# Altium schematic symbol library Driver_FET.SchLib: 201 symbols (part 2 of 2)
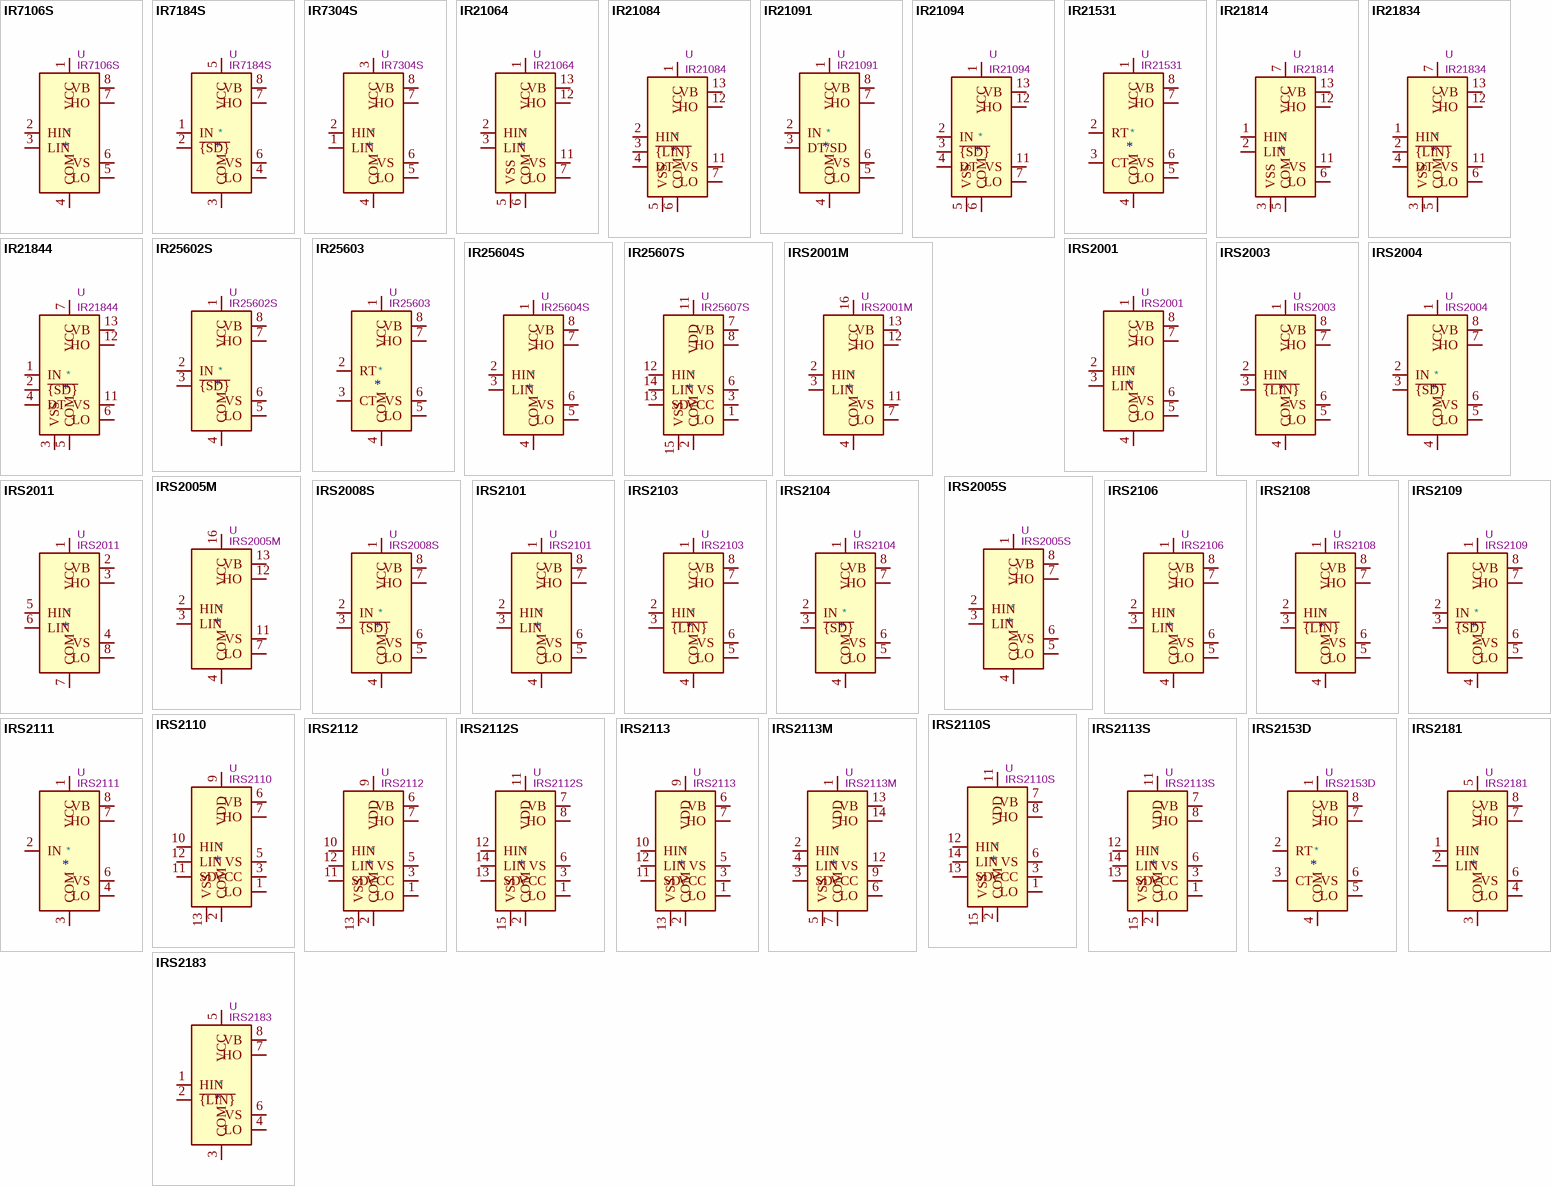
[diagram p6: symbols IR7106S to IRS2183]

## IRS2113
designator *  value IRS2113  Reference: U
ki_keywords: Gate Driver; ki_description: High and Low Side Driver, 600V, 2.0/2.0A, PDIP-14; ki_fp_filters: DIP*W7.62mm*; Footprint: Package_DIP:DIP-14_W7.62mm; Datasheet: https://www.infineon.com/dgdl/irs2110.pdf?fileId=5546d462533600a40153567660ff27b0
pins: 1 LO, 2 COM, 3 VCC, 4 NC hidden, 5 VS, 6 VB, 7 HO, 8 NC hidden, 9 VDD, 10 HIN, 11 SD, 12 LIN, 13 VSS, 14 NC hidden

## IRS2113M
designator *  value IRS2113M  Reference: U
ki_keywords: Gate Driver; ki_description: High- and Low-Side Driver, 600V, 2.5/2.5A, MLPQ-14; ki_fp_filters: Infineon*MLPQ*EP*4x4mm*P0.5mm*; Footprint: Package_DFN_QFN:Infineon_MLPQ-16-14-1EP_4x4mm_P0.5mm; Datasheet: https://www.infineon.com/dgdl/irs2113mpbf.pdf?fileId=5546d462533600a40153567676a227b7
pins: 1 VDD, 2 HIN, 3 SD, 4 LIN, 5 VSS, 6 LO, 7 COM, 8 NC hidden, 9 VCC, 11 NC hidden, 12 VS, 13 VB, 14 HO, 16 NC hidden, 17 COM hidden

## IRS2113S
designator *  value IRS2113S  Reference: U
ki_keywords: Gate Driver; ki_description: High and Low Side Driver, 500V, 2.0/2.0A, SOIC-16W; ki_fp_filters: SOIC*7.5x10.3mm*P1.27mm*; Footprint: Package_SO:SOIC-16W_7.5x10.3mm_P1.27mm; Datasheet: https://www.infineon.com/dgdl/irs2110.pdf?fileId=5546d462533600a40153567660ff27b0
pins: 1 LO, 2 COM, 3 VCC, 4 NC hidden, 5 NC hidden, 6 VS, 7 VB, 8 HO, 9 NC hidden, 10 NC hidden, 11 VDD, 12 HIN, 13 SD, 14 LIN, 15 VSS, 16 NC hidden

## IRS2153D
designator *  value IRS2153D  Reference: U
ki_keywords: Oscillating Gate Driver; ki_description: Self-Oscillating Half-Bridge Driver IC, 600V, 180/260mA, PDIP-8/SOIC-8; ki_fp_filters: SOIC*3.9x4.9mm*P1.27mm* DIP*W7.62mm*; Datasheet: https://www.infineon.com/dgdl/irs2153d.pdf?fileId=5546d462533600a401535676951e27c3
pins: 1 VCC, 2 RT, 3 CT, 4 COM, 5 LO, 6 VS, 7 HO, 8 VB

## IRS2181
designator *  value IRS2181  Reference: U
ki_keywords: Gate Driver; ki_description: High and Low Side Driver, 600V, 1.4/1.8A, PDIP-8/SOIC-8; ki_fp_filters: SOIC*3.9x4.9mm*P1.27mm* DIP*W7.62mm*; Datasheet: https://www.infineon.com/dgdl/irs2181.pdf?fileId=5546d462533600a401535676c12b27d3
pins: 1 HIN, 2 LIN, 3 COM, 4 LO, 5 VCC, 6 VS, 7 HO, 8 VB

## IRS2183
designator *  value IRS2183  Reference: U
ki_keywords: Gate Driver; ki_description: Half-Bridge Driver, 600V, 1.4/1.8A, PDIP-8/SOIC-8; ki_fp_filters: SOIC*3.9x4.9mm*P1.27mm* DIP*W7.62mm*; Datasheet: https://www.infineon.com/dgdl/irs2183.pdf?fileId=5546d462533600a401535676d20c27d8
pins: 1 HIN, 2 ~{{LIN}}, 3 COM, 4 LO, 5 VCC, 6 VS, 7 HO, 8 VB

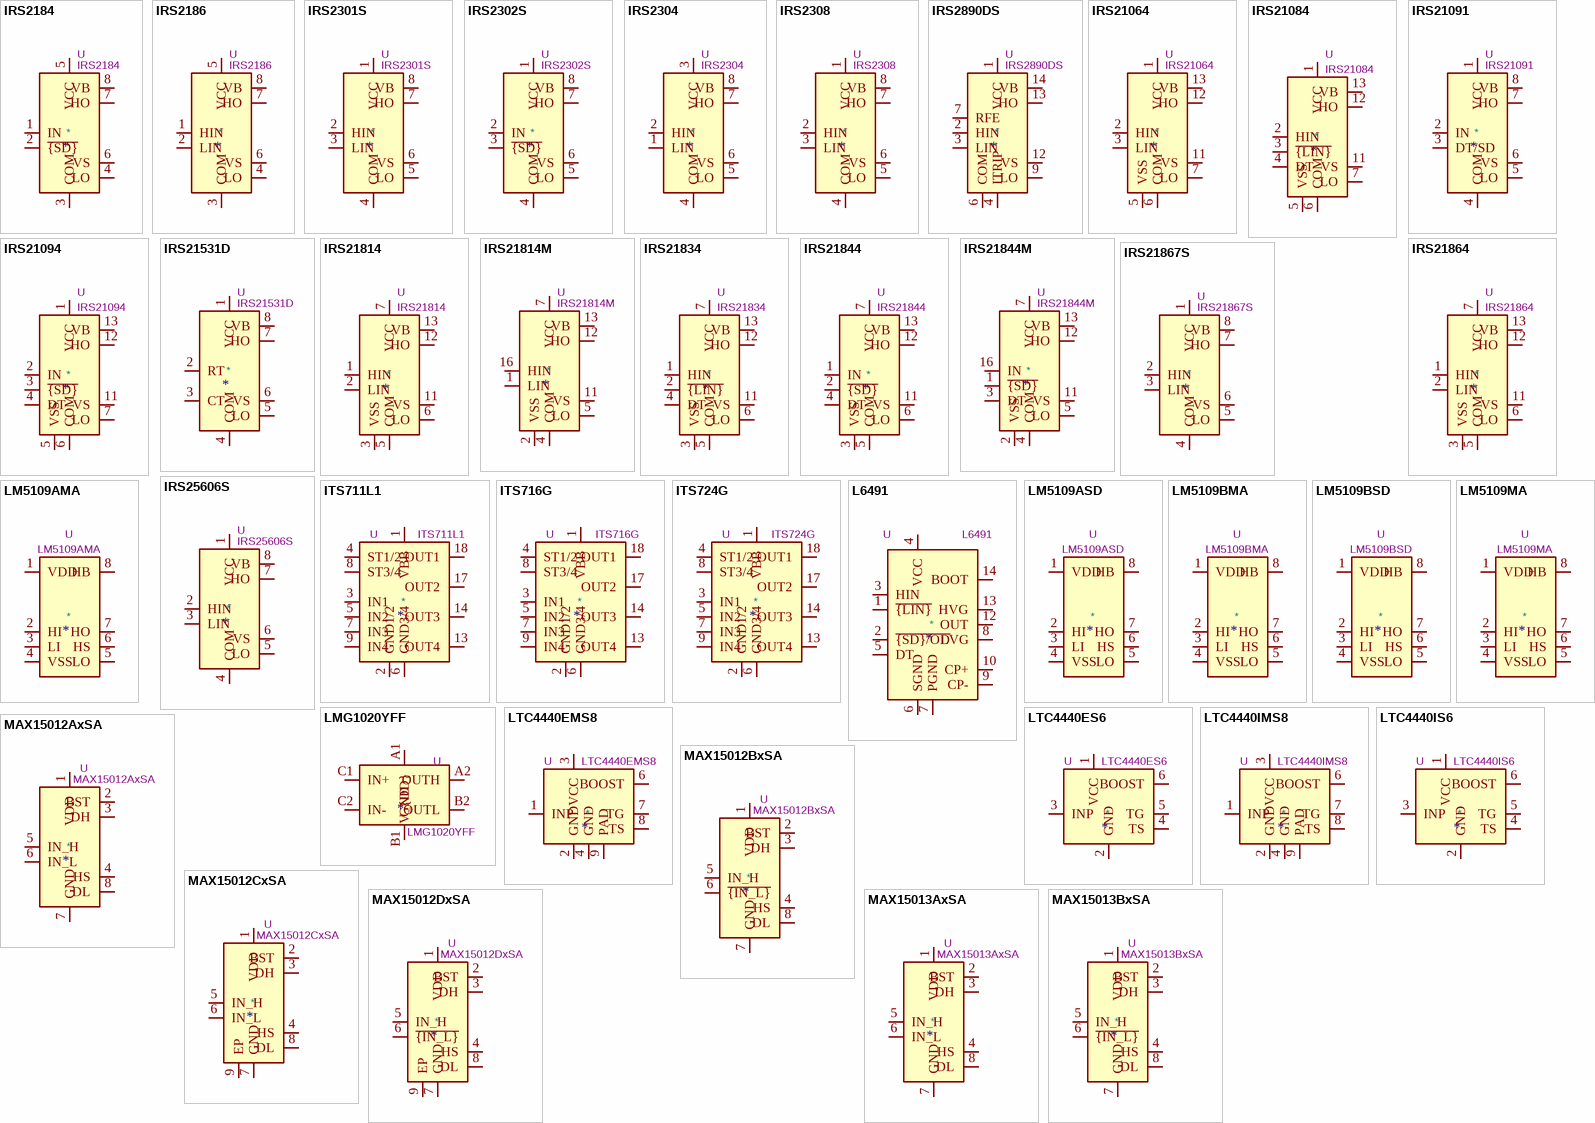
[diagram p3: symbols IRS2184 to MAX15013BxSA]

## IRS2184
designator *  value IRS2184  Reference: U
ki_keywords: Gate Driver; ki_description: Half-Bridge Driver, 600V, 1.4/1.8A, PDIP-8/SOIC-8; ki_fp_filters: SOIC*3.9x4.9mm*P1.27mm* DIP*W7.62mm*; Datasheet: https://www.infineon.com/dgdl/irs2184.pdf?fileId=5546d462533600a401535676d8da27db
pins: 1 IN, 2 ~{{SD}}, 3 COM, 4 LO, 5 VCC, 6 VS, 7 HO, 8 VB

## IRS2186
designator *  value IRS2186  Reference: U
ki_keywords: gate driver; ki_description: High and Low Side Driver, 600V, 4A, PDIP-8/SOIC-8; ki_fp_filters: SOIC*3.9x4.9mm*P1.27mm* DIP*W7.62mm*; Datasheet: https://www.infineon.com/dgdl/irs2186pbf.pdf?fileId=5546d462533600a40153567716c427ed
pins: 1 HIN, 2 LIN, 3 COM, 4 LO, 5 VCC, 6 VS, 7 HO, 8 VB

## IRS2301S
designator *  value IRS2301S  Reference: U
ki_keywords: Gate Driver; ki_description: High and Low Side Driver, 600V, 200/350mA, SOIC-8; ki_fp_filters: SOIC*3.9x4.9mm*P1.27mm*; Footprint: Package_SO:SOIC-8_3.9x4.9mm_P1.27mm; Datasheet: https://www.infineon.com/dgdl/irs2301pbf.pdf?fileId=5546d462533600a40153567a7ec527fe
pins: 1 VCC, 2 HIN, 3 LIN, 4 COM, 5 LO, 6 VS, 7 HO, 8 VB

## IRS2302S
designator *  value IRS2302S  Reference: U
ki_keywords: Gate Driver; ki_description: Half-Bridge Driver, 600V, 200/350mA, SOIC-8; ki_fp_filters: SOIC*3.9x4.9mm*P1.27mm*; Footprint: Package_SO:SOIC-8_3.9x4.9mm_P1.27mm; Datasheet: https://www.infineon.com/dgdl/Infineon-IRS2302-DS-v02_01-EN.pdf?fileId=5546d462533600a40153567a87382800
pins: 1 VCC, 2 IN, 3 ~{{SD}}, 4 COM, 5 LO, 6 VS, 7 HO, 8 VB

## IRS2304
designator *  value IRS2304  Reference: U
ki_keywords: Gate Driver; ki_description: Half-Bridge Driver, 600V, 290/600mA, PDIP-8/SOIC-8; ki_fp_filters: SOIC*3.9x4.9mm*P1.27mm* DIP*W7.62mm*; Datasheet: https://www.infineon.com/dgdl/irs2304spbf.pdf?fileId=5546d462533600a40153567a8fe72802
pins: 1 LIN, 2 HIN, 3 VCC, 4 COM, 5 LO, 6 VS, 7 HO, 8 VB

## IRS2308
designator *  value IRS2308  Reference: U
ki_keywords: Gate Driver; ki_description: Half-Bridge Driver, 600V, 290/600mA, PDIP-8/SOIC-8; ki_fp_filters: SOIC*3.9x4.9mm*P1.27mm* DIP*W7.62mm*; Datasheet: https://www.infineon.com/dgdl/irs2308.pdf?fileId=5546d462533600a40153567a98ac2804
pins: 1 VCC, 2 HIN, 3 LIN, 4 COM, 5 LO, 6 VS, 7 HO, 8 VB

## IRS2890DS
designator *  value IRS2890DS  Reference: U
ki_keywords: Gate Driver; ki_description: Half-Bridge Driver with Overcurrent Protection, 600V, 220/480mA, SOIC-14; ki_fp_filters: SOIC*3.9x8.7mm*P1.27mm*; Footprint: Package_SO:SOIC-14_3.9x8.7mm_P1.27mm; Datasheet: https://www.infineon.com/dgdl/Infineon-IRS2890DS-DS-v01_00-EN.pdf?fileId=5546d4625a888733015aad6fbc8a4bf4
pins: 1 VCC, 2 HIN, 3 LIN, 4 ITRIP, 5 NC hidden, 6 COM, 7 RFE, 8 NC hidden, 9 LO, 10 NC hidden, 11 NC hidden, 12 VS, 13 HO, 14 VB

## IRS21064
designator *  value IRS21064  Reference: U
ki_keywords: Gate Driver; ki_description: High and Low Side Driver, 600V, 290/600mA, PDIP-14/SOIC-14; ki_fp_filters: SOIC*3.9x8.7mm*P1.27mm* DIP*W7.62mm*; Datasheet: https://www.infineon.com/dgdl/irs2106.pdf?fileId=5546d462533600a4015356763aa527a3
pins: 1 VCC, 2 HIN, 3 LIN, 4 NC hidden, 5 VSS, 6 COM, 7 LO, 8 NC hidden, 9 NC hidden, 10 NC hidden, 11 VS, 12 HO, 13 VB, 14 NC hidden

## IRS21084
designator *  value IRS21084  Reference: U
ki_keywords: Gate Driver; ki_description: Half-Bridge Driver, 600V, 290/600mA, PDIP-14/SOIC-14; ki_fp_filters: SOIC*3.9x8.7mm*P1.27mm* DIP*W7.62mm*; Datasheet: https://www.infineon.com/dgdl/irs2108.pdf?fileId=5546d462533600a40153567649d627a8
pins: 1 VCC, 2 HIN, 3 ~{{LIN}}, 4 DT, 5 VSS, 6 COM, 7 LO, 8 NC hidden, 9 NC hidden, 10 NC hidden, 11 VS, 12 HO, 13 VB, 14 NC hidden

## IRS21091
designator *  value IRS21091  Reference: U
ki_keywords: Gate Driver; ki_description: Half-Bridge Driver, 600V, 290/600mA, PDIP-8/SOIC-8; ki_fp_filters: SOIC*3.9x4.9mm*P1.27mm* DIP*W7.62mm*; Datasheet: https://www.infineon.com/dgdl/irs21091.pdf?fileId=5546d462533600a401535676573d27ae
pins: 1 VCC, 2 IN, 3 DT/SD, 4 COM, 5 LO, 6 VS, 7 HO, 8 VB

## IRS21094
designator *  value IRS21094  Reference: U
ki_keywords: Gate Driver; ki_description: Half-Bridge Driver, 600V, 290/600mA, PDIP-8/SOIC-8; ki_fp_filters: SOIC*3.9x8.7mm*P1.27mm* DIP*W7.62mm*; Datasheet: https://www.infineon.com/dgdl/irs2109.pdf?fileId=5546d462533600a401535676508f27ab
pins: 1 VCC, 2 IN, 3 ~{{SD}}, 4 DT, 5 VSS, 6 COM, 7 LO, 8 NC hidden, 9 NC hidden, 10 NC hidden, 11 VS, 12 HO, 13 VB, 14 NC hidden

## IRS21531D
designator *  value IRS21531D  Reference: U
ki_keywords: Oscillating Gate Driver; ki_description: Self-Oscillating Half-Bridge Driver IC, 600V, 180/260mA, PDIP-8/SOIC-8; ki_fp_filters: SOIC*3.9x4.9mm*P1.27mm* DIP*W7.62mm*; Datasheet: https://www.infineon.com/dgdl/irs2153d.pdf?fileId=5546d462533600a401535676951e27c3
pins: 1 VCC, 2 RT, 3 CT, 4 COM, 5 LO, 6 VS, 7 HO, 8 VB

## IRS21814
designator *  value IRS21814  Reference: U
ki_keywords: Gate Driver; ki_description: High and Low Side Driver, 600V, 1.4/1.8A, PDIP-14/SOIC-14; ki_fp_filters: SOIC*3.9x8.7mm*P1.27mm* DIP*W7.62mm*; Datasheet: https://www.infineon.com/dgdl/irs2181.pdf?fileId=5546d462533600a401535676c12b27d3
pins: 1 HIN, 2 LIN, 3 VSS, 4 NC hidden, 5 COM, 6 LO, 7 VCC, 8 NC hidden, 9 NC hidden, 10 NC hidden, 11 VS, 12 HO, 13 VB, 14 NC hidden

## IRS21814M
designator *  value IRS21814M  Reference: U
ki_keywords: Gate Driver; ki_description: High- and Low-Side Driver, 600V, 1.9/2.3A, MLPQ-14; ki_fp_filters: Infineon*MLPQ*EP*4x4mm*P0.5mm*; Footprint: Package_DFN_QFN:Infineon_MLPQ-16-14-1EP_4x4mm_P0.5mm; Datasheet: https://www.infineon.com/dgdl/irs21814mpbf.pdf?fileId=5546d462533600a401535676c8a827d6
pins: 1 LIN, 2 VSS, 3 NC hidden, 4 COM, 5 LO, 6 NC hidden, 7 VCC, 8 NC hidden, 9 NC hidden, 11 VS, 12 HO, 13 VB, 14 NC hidden, 16 HIN, 17 COM hidden

## IRS21834
designator *  value IRS21834  Reference: U
ki_keywords: Gate Driver; ki_description: Half-Bridge Driver, 600V, 1.4/1.8A, PDIP-14/SOIC-14; ki_fp_filters: SOIC*3.9x8.7mm*P1.27mm* DIP*W7.62mm*; Datasheet: https://www.infineon.com/dgdl/irs2183.pdf?fileId=5546d462533600a401535676d20c27d8
pins: 1 HIN, 2 ~{{LIN}}, 3 VSS, 4 DT, 5 COM, 6 LO, 7 VCC, 8 NC hidden, 9 NC hidden, 10 NC hidden, 11 VS, 12 HO, 13 VB, 14 NC hidden

## IRS21844
designator *  value IRS21844  Reference: U
ki_keywords: Gate Driver; ki_description: Half-Bridge Driver, 600V, 1.4/1.8A, PDIP-14/SOIC-14; ki_fp_filters: SOIC*3.9x8.7mm*P1.27mm* DIP*W7.62mm*; Datasheet: https://www.infineon.com/dgdl/irs2184.pdf?fileId=5546d462533600a401535676d8da27db
pins: 1 IN, 2 ~{{SD}}, 3 VSS, 4 DT, 5 COM, 6 LO, 7 VCC, 8 NC hidden, 9 NC hidden, 10 NC hidden, 11 VS, 12 HO, 13 VB, 14 NC hidden

## IRS21844M
designator *  value IRS21844M  Reference: U
ki_keywords: Gate Driver; ki_description: Half-Bridge Driver, 600V, 1.9/2.3A, MLPQ-14; ki_fp_filters: Infineon*MLPQ*EP*4x4mm*P0.5mm*; Footprint: Package_DFN_QFN:Infineon_MLPQ-16-14-1EP_4x4mm_P0.5mm; Datasheet: https://www.infineon.com/dgdl/irs21844mpbf.pdf?fileId=5546d462533600a401535676dfb027de
pins: 1 ~{{SD}}, 2 VSS, 3 DT, 4 COM, 5 LO, 6 NC hidden, 7 VCC, 8 NC hidden, 9 NC hidden, 11 VS, 12 HO, 13 VB, 14 NC hidden, 16 IN, 17 COM hidden

## IRS21864
designator *  value IRS21864  Reference: U
ki_keywords: gate driver; ki_description: High and Low Side Driver, 600V, 4A, PDIP-14/SOIC-14; ki_fp_filters: SOIC*3.9x8.7mm*P1.27mm* DIP*W7.62mm*; Datasheet: https://www.infineon.com/dgdl/irs2186pbf.pdf?fileId=5546d462533600a40153567716c427ed
pins: 1 HIN, 2 LIN, 3 VSS, 4 NC hidden, 5 COM, 6 LO, 7 VCC, 8 NC hidden, 9 NC hidden, 10 NC hidden, 11 VS, 12 HO, 13 VB, 14 NC hidden

## IRS21867S
designator *  value IRS21867S  Reference: U
ki_keywords: Gate Driver; ki_description: High and Low Side Driver, 600V, 4.0/4.0A, SOIC-8; ki_fp_filters: SOIC*3.9x4.9mm*P1.27mm*; Footprint: Package_SO:SOIC-8_3.9x4.9mm_P1.27mm; Datasheet: http://www.infineon.com/dgdl/irs21867spbf.pdf?fileId=5546d462533600a4015356770e8327eb
pins: 1 VCC, 2 HIN, 3 LIN, 4 COM, 5 LO, 6 VS, 7 HO, 8 VB

## IRS25606S
designator *  value IRS25606S  Reference: U
ki_keywords: Gate Driver; ki_description: Half-Bridge Driver, 600V, 200/350mA, SOIC-8; ki_fp_filters: SOIC*3.9x4.9mm*P1.27mm*; Footprint: Package_SO:SOIC-8_3.9x4.9mm_P1.27mm; Datasheet: https://www.infineon.com/dgdl/ir25606.pdf?fileId=5546d462533600a4015355ca002316f3
pins: 1 VCC, 2 HIN, 3 LIN, 4 COM, 5 LO, 6 VS, 7 HO, 8 VB

## ITS711L1
designator *  value ITS711L1  Reference: U
ki_keywords: driver fet quad; ki_description: Smart High-Side Power Switch for Industrial Applications, Four Channels, Rds 200mΩ, SOIC-20W; ki_fp_filters: SOIC*7.5x12.8mm*P1.27mm*; Footprint: Package_SO:SOIC-20W_7.5x12.8mm_P1.27mm; Datasheet: https://www.infineon.com/dgdl/Infineon-ITS711L1-DS-v01_03-en.pdf?fileId=db3a30432239cccd0122e560bae03c62
pins: 1 VBB, 2 GND1/2, 3 IN1, 4 ST1/2, 5 IN2, 6 GND3/4, 7 IN3, 8 ST3/4, 9 IN4, 10 VBB hidden, 11 VBB hidden, 12 VBB hidden, 13 OUT4, 14 OUT3, 15 VBB hidden, 16 VBB hidden, 17 OUT2, 18 OUT1, 19 VBB hidden, 20 VBB hidden

## ITS716G
designator *  value ITS716G  Reference: U
ki_keywords: driver fet quad; ki_description: Smart High-Side Power Switch for Industrial Applications, Four Channels, Rds 140mΩ, SOIC-20W; ki_fp_filters: SOIC*7.5x12.8mm*P1.27mm*; Footprint: Package_SO:SOIC-20W_7.5x12.8mm_P1.27mm; Datasheet: https://www.infineon.com/dgdl/Infineon-ITS716G-DS-v01_01-en.pdf?fileId=db3a304412b407950112b428c2cf3e6d
pins: 1 VBB, 2 GND1/2, 3 IN1, 4 ST1/2, 5 IN2, 6 GND3/4, 7 IN3, 8 ST3/4, 9 IN4, 10 VBB hidden, 11 VBB hidden, 12 VBB hidden, 13 OUT4, 14 OUT3, 15 VBB hidden, 16 VBB hidden, 17 OUT2, 18 OUT1, 19 VBB hidden, 20 VBB hidden

## ITS724G
designator *  value ITS724G  Reference: U
ki_keywords: driver fet quad; ki_description: Smart High-Side Power Switch for Industrial Applications, Four Channels, Rds 90mΩ, SOIC-20W; ki_fp_filters: SOIC*7.5x12.8mm*P1.27mm*; Footprint: Package_SO:SOIC-20W_7.5x12.8mm_P1.27mm; Datasheet: https://www.infineon.com/dgdl/Infineon-ITS724G-DS-v01_01-en.pdf?fileId=db3a304412b407950112b428d6083e90
pins: 1 VBB, 2 GND1/2, 3 IN1, 4 ST1/2, 5 IN2, 6 GND3/4, 7 IN3, 8 ST3/4, 9 IN4, 10 VBB hidden, 11 VBB hidden, 12 VBB hidden, 13 OUT4, 14 OUT3, 15 VBB hidden, 16 VBB hidden, 17 OUT2, 18 OUT1, 19 VBB hidden, 20 VBB hidden

## L6491
designator *  value L6491  Reference: U
ki_keywords: fet driver; ki_description: High voltage high and low-side 4 A gate driver, SO-14; ki_fp_filters: SO*3.9x8.65mm*P1.27mm*; Footprint: Package_SO:SO-14_3.9x8.65mm_P1.27mm; Datasheet: https://www.st.com/resource/en/datasheet/l6491.pdf
pins: 1 ~{{LIN}}, 2 ~{{SD}/OD}, 3 HIN, 4 VCC, 5 DT, 6 SGND, 7 PGND, 8 LVG, 9 CP-, 10 CP+, 11 NC hidden, 12 OUT, 13 HVG, 14 BOOT

## LM5109AMA
designator *  value LM5109AMA  Reference: U
ki_keywords: Half-Bridge Gate Driver; ki_description: Half-Bridge Gate Driver, Output Current 1.0A, 100V, SOIC-8; ki_fp_filters: SOIC*3.9x4.9mm*P1.27mm*; Footprint: Package_SO:SOIC-8_3.9x4.9mm_P1.27mm; Datasheet: http://www.ti.com/lit/ds/symlink/lm5109a.pdf
pins: 1 VDD, 2 HI, 3 LI, 4 VSS, 5 LO, 6 HS, 7 HO, 8 HB

## LM5109ASD
designator *  value LM5109ASD  Reference: U
ki_keywords: Half-Bridge Gate Driver; ki_description: Half-Bridge Gate Driver, Output Current 1.0A, 100V, WSON-8; ki_fp_filters: WSON*1EP*4x4mm*P0.8mm*; Footprint: Package_SON:WSON-8-1EP_4x4mm_P0.8mm_EP2.6x3mm; Datasheet: http://www.ti.com/lit/ds/symlink/lm5109a.pdf
pins: 1 VDD, 2 HI, 3 LI, 4 VSS, 5 LO, 6 HS, 7 HO, 8 HB, 9 VSS hidden

## LM5109BMA
designator *  value LM5109BMA  Reference: U
ki_keywords: Half-Bridge Gate Driver; ki_description: Half-Bridge Gate Driver, Output Current 1.0A, 100V, SOIC-8; ki_fp_filters: SOIC*3.9x4.9mm*P1.27mm*; Footprint: Package_SO:SOIC-8_3.9x4.9mm_P1.27mm; Datasheet: http://www.ti.com/lit/ds/symlink/lm5109b.pdf
pins: 1 VDD, 2 HI, 3 LI, 4 VSS, 5 LO, 6 HS, 7 HO, 8 HB

## LM5109BSD
designator *  value LM5109BSD  Reference: U
ki_keywords: Half-Bridge Gate Driver; ki_description: Half-Bridge Gate Driver, Output Current 1.0A, 100V, WSON-8; ki_fp_filters: WSON*1EP*4x4mm*P0.8mm*; Footprint: Package_SON:WSON-8-1EP_4x4mm_P0.8mm_EP2.6x3mm; Datasheet: http://www.ti.com/lit/ds/symlink/lm5109b.pdf
pins: 1 VDD, 2 HI, 3 LI, 4 VSS, 5 LO, 6 HS, 7 HO, 8 HB, 9 VSS hidden

## LM5109MA
designator *  value LM5109MA  Reference: U
ki_keywords: Half-Bridge Gate Driver; ki_description: Half-Bridge Gate Driver, Output Current 1.0A, 100V, SOIC-8; ki_fp_filters: SOIC*3.9x4.9mm*P1.27mm*; Footprint: Package_SO:SOIC-8_3.9x4.9mm_P1.27mm; Datasheet: http://www.ti.com/lit/ds/symlink/lm5109.pdf
pins: 1 VDD, 2 HI, 3 LI, 4 VSS, 5 LO, 6 HS, 7 HO, 8 HB

## LMG1020YFF
designator *  value LMG1020YFF  Reference: U
ki_keywords: gan hemt gate driver low side fast rise time; ki_description: 5-V, 7-A, 5-A Low-Side GaN and MOSFET Driver For 1-ns Pulse Width, DSBGA-6; ki_fp_filters: Texas?DSBGA?6?0.855x1.255mm?Layout2x3?P0.4mm*; Footprint: Package_BGA:Texas_DSBGA-6_0.855x1.255mm_Layout2x3_P0.4mm_LevelB; Datasheet: https://www.ti.com/lit/ds/symlink/lmg1020.pdf
pins: A1 V_{DD}, A2 OUTH, B1 GND, B2 OUTL, C1 IN+, C2 IN-

## LTC4440EMS8
designator *  value LTC4440EMS8  Reference: U
ki_keywords: high-side mosfet-driver; ki_description: High-side, N-Channel, Mosfet driver, 80V input, -40°C to +85°C, MSOP-8; ki_fp_filters: MSOP*1EP*3x3mm*P0.65mm*; Footprint: Package_SO:MSOP-8-1EP_3x3mm_P0.65mm_EP1.68x1.88mm; Datasheet: https://www.analog.com/media/en/technical-documentation/data-sheets/4440fb.pdf
pins: 1 INP, 2 GND, 3 VCC, 4 GND, 5 NC hidden, 6 BOOST, 7 TG, 8 TS, 9 PAD

## LTC4440ES6
designator *  value LTC4440ES6  Reference: U
ki_keywords: high-side mosfet-driver; ki_description: High-side, N-Channel, Mosfet driver, 80V input, -40°C to +85°C, SOT23-6; ki_fp_filters: SOT?23*; Footprint: Package_TO_SOT_SMD:SOT-23-6; Datasheet: https://www.analog.com/media/en/technical-documentation/data-sheets/4440fb.pdf
pins: 1 VCC, 2 GND, 3 INP, 4 TS, 5 TG, 6 BOOST

## LTC4440IMS8
designator *  value LTC4440IMS8  Reference: U
ki_keywords: high-side mosfet-driver; ki_description: High-side, N-Channel, Mosfet driver, 80V input, -40°C to +125°C, MSOP-8; ki_fp_filters: MSOP*1EP*3x3mm*P0.65mm*; Footprint: Package_SO:MSOP-8-1EP_3x3mm_P0.65mm_EP1.68x1.88mm; Datasheet: https://www.analog.com/media/en/technical-documentation/data-sheets/4440fb.pdf
pins: 1 INP, 2 GND, 3 VCC, 4 GND, 5 NC hidden, 6 BOOST, 7 TG, 8 TS, 9 PAD

## LTC4440IS6
designator *  value LTC4440IS6  Reference: U
ki_keywords: high-side mosfet-driver; ki_description: High-side, N-Channel, Mosfet driver, 80V input, -40°C to +85°C, SOT23-6; ki_fp_filters: SOT?23*; Footprint: Package_TO_SOT_SMD:SOT-23-6; Datasheet: https://www.analog.com/media/en/technical-documentation/data-sheets/4440fb.pdf
pins: 1 VCC, 2 GND, 3 INP, 4 TS, 5 TG, 6 BOOST

## MAX15012AxSA
designator *  value MAX15012AxSA  Reference: U
ki_keywords: Half Bridge Gate Driver; ki_description: High Frequency Half Bridge Driver, Output Current 2.0A, 175V, CMOS Input, SOIC-8; ki_fp_filters: SOIC*3.9x4.9mm*P1.27mm*; Footprint: Package_SO:SOIC-8_3.9x4.9mm_P1.27mm; Datasheet: https://datasheets.maximintegrated.com/en/ds/MAX15012-MAX15013B.pdf
pins: 1 VDD, 2 BST, 3 DH, 4 HS, 5 IN_H, 6 IN_L, 7 GND, 8 DL

## MAX15012BxSA
designator *  value MAX15012BxSA  Reference: U
ki_keywords: Half Bridge Gate Driver; ki_description: High Frequency Half Bridge Driver, Output Current 2.0A, 175V, CMOS Input, SOIC-8; ki_fp_filters: SOIC*3.9x4.9mm*P1.27mm*; Footprint: Package_SO:SOIC-8_3.9x4.9mm_P1.27mm; Datasheet: https://datasheets.maximintegrated.com/en/ds/MAX15012-MAX15013B.pdf
pins: 1 VDD, 2 BST, 3 DH, 4 HS, 5 IN_H, 6 ~{{IN_L}}, 7 GND, 8 DL

## MAX15012CxSA
designator *  value MAX15012CxSA  Reference: U
ki_keywords: Half Bridge Gate Driver; ki_description: High Frequency Half Bridge Driver, Output Current 2.0A, 175V, CMOS Input, SOIC-8; ki_fp_filters: SOIC*1EP*3.9x4.9mm*P1.27mm*; Footprint: Package_SO:SOIC-8-1EP_3.9x4.9mm_P1.27mm_EP2.514x3.2mm; Datasheet: https://datasheets.maximintegrated.com/en/ds/MAX15012-MAX15013B.pdf
pins: 1 VDD, 2 BST, 3 DH, 4 HS, 5 IN_H, 6 IN_L, 7 GND, 8 DL, 9 EP

## MAX15012DxSA
designator *  value MAX15012DxSA  Reference: U
ki_keywords: Half Bridge Gate Driver; ki_description: High Frequency Half Bridge Driver, Output Current 2.0A, 175V, CMOS Input, SOIC-8; ki_fp_filters: SOIC*1EP*3.9x4.9mm*P1.27mm*; Footprint: Package_SO:SOIC-8-1EP_3.9x4.9mm_P1.27mm_EP2.514x3.2mm; Datasheet: https://datasheets.maximintegrated.com/en/ds/MAX15012-MAX15013B.pdf
pins: 1 VDD, 2 BST, 3 DH, 4 HS, 5 IN_H, 6 ~{{IN_L}}, 7 GND, 8 DL, 9 EP

## MAX15013AxSA
designator *  value MAX15013AxSA  Reference: U
ki_keywords: Half Bridge Gate Driver; ki_description: High Frequency Half Bridge Driver, Output Current 2.0A, 175V, TTL Input, SOIC-8; ki_fp_filters: SOIC*3.9x4.9mm*P1.27mm*; Footprint: Package_SO:SOIC-8_3.9x4.9mm_P1.27mm; Datasheet: https://datasheets.maximintegrated.com/en/ds/MAX15012-MAX15013B.pdf
pins: 1 VDD, 2 BST, 3 DH, 4 HS, 5 IN_H, 6 IN_L, 7 GND, 8 DL

## MAX15013BxSA
designator *  value MAX15013BxSA  Reference: U
ki_keywords: Half Bridge Gate Driver; ki_description: High Frequency Half Bridge Driver, Output Current 2.0A, 175V, TTL Input, SOIC-8; ki_fp_filters: SOIC*3.9x4.9mm*P1.27mm*; Footprint: Package_SO:SOIC-8_3.9x4.9mm_P1.27mm; Datasheet: https://datasheets.maximintegrated.com/en/ds/MAX15012-MAX15013B.pdf
pins: 1 VDD, 2 BST, 3 DH, 4 HS, 5 IN_H, 6 ~{{IN_L}}, 7 GND, 8 DL

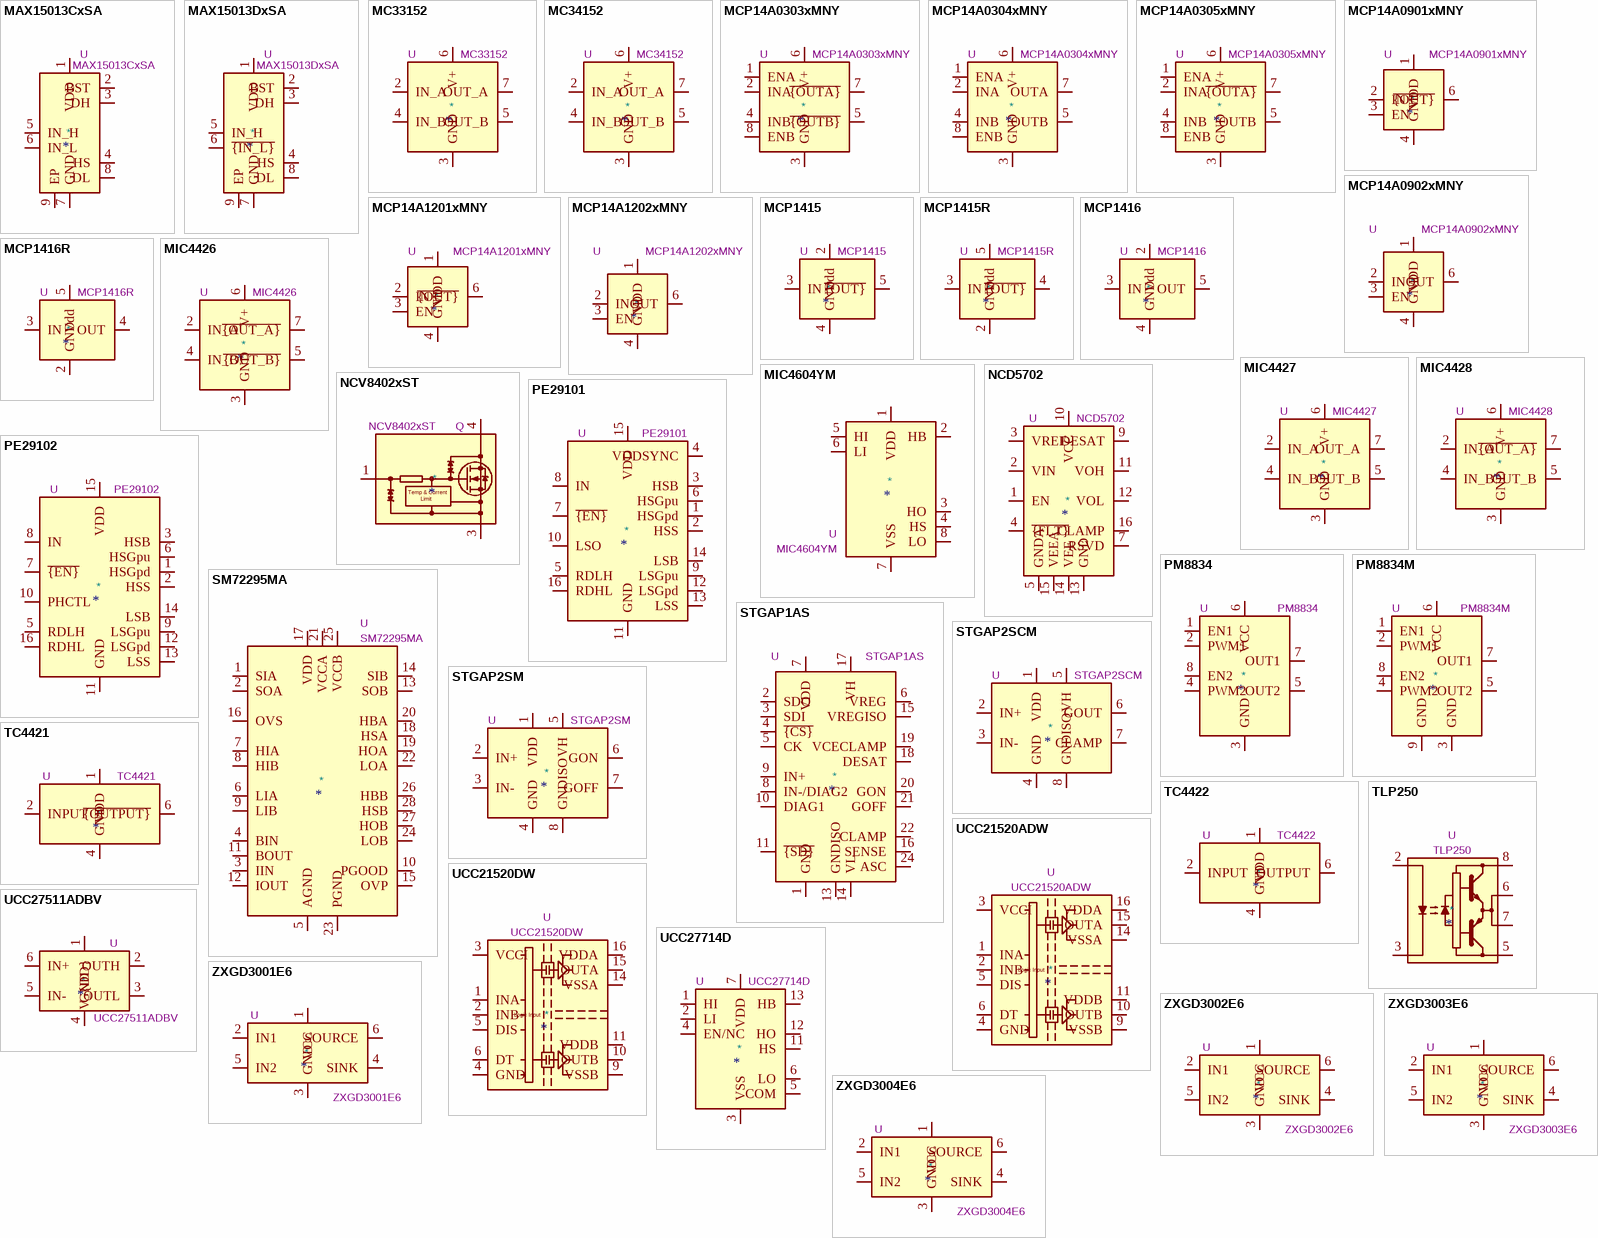
[diagram p4: symbols MAX15013CxSA to ZXGD3004E6]

## MAX15013CxSA
designator *  value MAX15013CxSA  Reference: U
ki_keywords: Half Bridge Gate Driver; ki_description: High Frequency Half Bridge Driver, Output Current 2.0A, 175V, TTL Input, SOIC-8; ki_fp_filters: SOIC*1EP*3.9x4.9mm*P1.27mm*; Footprint: Package_SO:SOIC-8-1EP_3.9x4.9mm_P1.27mm_EP2.514x3.2mm; Datasheet: https://datasheets.maximintegrated.com/en/ds/MAX15012-MAX15013B.pdf
pins: 1 VDD, 2 BST, 3 DH, 4 HS, 5 IN_H, 6 IN_L, 7 GND, 8 DL, 9 EP

## MAX15013DxSA
designator *  value MAX15013DxSA  Reference: U
ki_keywords: Half Bridge Gate Driver; ki_description: High Frequency Half Bridge Driver, Output Current 2.0A, 175V, TTL Input, SOIC-8; ki_fp_filters: SOIC*1EP*3.9x4.9mm*P1.27mm*; Footprint: Package_SO:SOIC-8-1EP_3.9x4.9mm_P1.27mm_EP2.514x3.2mm; Datasheet: https://datasheets.maximintegrated.com/en/ds/MAX15012-MAX15013B.pdf
pins: 1 VDD, 2 BST, 3 DH, 4 HS, 5 IN_H, 6 ~{{IN_L}}, 7 GND, 8 DL, 9 EP

## MC33152
designator *  value MC33152  Reference: U
ki_keywords: Driver, Dual MOSFET; ki_description: High Speed Dual MOSFET Drivers, 1.5A, -40 to 125C, DIP-8/SOIC-8; ki_fp_filters: DIP*W7.62mm* SOIC*3.9x4.9mm*P1.27mm*; Datasheet: https://www.onsemi.com/pub/Collateral/MC34152-D.PDF
pins: 1 NC hidden, 2 IN_A, 3 GND, 4 IN_B, 5 OUT_B, 6 V+, 7 OUT_A, 8 NC hidden

## MC34152
designator *  value MC34152  Reference: U
ki_keywords: Driver, Dual MOSFET; ki_description: High Speed Dual MOSFET Drivers, 1.5A, 0 to 70C, DIP-8/SOIC-8; ki_fp_filters: DIP*W7.62mm* SOIC*3.9x4.9mm*P1.27mm*; Datasheet: https://www.onsemi.com/pub/Collateral/MC34152-D.PDF
pins: 1 NC hidden, 2 IN_A, 3 GND, 4 IN_B, 5 OUT_B, 6 V+, 7 OUT_A, 8 NC hidden

## MCP14A0303xMNY
designator *  value MCP14A0303xMNY  Reference: U
ki_keywords: Driver, Dual MOSFET; ki_description: Dual 3A-Peak MOSFET Driver, inverting outputs, DFN-8; ki_fp_filters: WDFN*1EP*3x2mm*P0.5mm*EP1.3x1.4mm*; Footprint: Package_DFN_QFN:WDFN-8-1EP_3x2mm_P0.5mm_EP1.3x1.4mm; Datasheet: http://ww1.microchip.com/downloads/en/DeviceDoc/MCP14A0303_4_5-Data-Sheet-20006046A.pdf
pins: 1 ENA, 2 INA, 3 GND, 4 INB, 5 ~{{OUTB}}, 6 V+, 7 ~{{OUTA}}, 8 ENB, 9 GND hidden

## MCP14A0304xMNY
designator *  value MCP14A0304xMNY  Reference: U
ki_keywords: Driver, Dual MOSFET; ki_description: Dual 3A-Peak MOSFET Driver, non-inverting outputs, DFN-8; ki_fp_filters: WDFN*1EP*3x2mm*P0.5mm*EP1.3x1.4mm*; Footprint: Package_DFN_QFN:WDFN-8-1EP_3x2mm_P0.5mm_EP1.3x1.4mm; Datasheet: http://ww1.microchip.com/downloads/en/DeviceDoc/MCP14A0303_4_5-Data-Sheet-20006046A.pdf
pins: 1 ENA, 2 INA, 3 GND, 4 INB, 5 OUTB, 6 V+, 7 OUTA, 8 ENB, 9 GND hidden

## MCP14A0305xMNY
designator *  value MCP14A0305xMNY  Reference: U
ki_keywords: Driver, Dual MOSFET; ki_description: Dual 3A-Peak MOSFET Driver, inverting/non-inverting outputs, DFN-8; ki_fp_filters: WDFN*1EP*3x2mm*P0.5mm*EP1.3x1.4mm*; Footprint: Package_DFN_QFN:WDFN-8-1EP_3x2mm_P0.5mm_EP1.3x1.4mm; Datasheet: http://ww1.microchip.com/downloads/en/DeviceDoc/MCP14A0303_4_5-Data-Sheet-20006046A.pdf
pins: 1 ENA, 2 INA, 3 GND, 4 INB, 5 OUTB, 6 V+, 7 ~{{OUTA}}, 8 ENB, 9 GND hidden

## MCP14A0901xMNY
designator *  value MCP14A0901xMNY  Reference: U
ki_keywords: Driver, Dual MOSFET; ki_description: Dual 9A-Peak MOSFET Driver, inverting outputs, DFN-8; ki_fp_filters: TDFN*1EP*3x2mm*P0.5mm*; Footprint: Package_DFN_QFN:TDFN-8-1EP_3x2mm_P0.5mm_EP1.3x1.4mm; Datasheet: http://ww1.microchip.com/downloads/en/DeviceDoc/MCP14A0901_2-Data-Sheet-20006183A.pdf
pins: 1 VDD, 2 IN, 3 EN, 4 GND, 5 GND hidden, 6 ~{{OUT}}, 7 ~{{OUT}} hidden, 8 VDD hidden, 9 GND hidden

## MCP14A0902xMNY
designator *  value MCP14A0902xMNY  Reference: U
ki_keywords: Driver, Dual MOSFET; ki_description: Dual 9A-Peak MOSFET Driver, non-inverting outputs, DFN-8; ki_fp_filters: TDFN*1EP*3x2mm*P0.5mm*; Footprint: Package_DFN_QFN:TDFN-8-1EP_3x2mm_P0.5mm_EP1.3x1.4mm; Datasheet: http://ww1.microchip.com/downloads/en/DeviceDoc/MCP14A0901_2-Data-Sheet-20006183A.pdf
pins: 1 VDD, 2 IN, 3 EN, 4 GND, 5 GND hidden, 6 OUT, 7 OUT hidden, 8 VDD hidden, 9 GND hidden

## MCP14A1201xMNY
designator *  value MCP14A1201xMNY  Reference: U
ki_keywords: Driver, Dual MOSFET; ki_description: Dual 12A-Peak MOSFET Driver, inverting outputs, DFN-8; ki_fp_filters: TDFN*1EP*3x2mm*P0.5mm*; Footprint: Package_DFN_QFN:TDFN-8-1EP_3x2mm_P0.5mm_EP1.3x1.4mm; Datasheet: http://ww1.microchip.com/downloads/en/DeviceDoc/MCP14A1201-Family-Data-Sheet-DS20006228A.pdf
pins: 1 VDD, 2 IN, 3 EN, 4 GND, 5 GND hidden, 6 ~{{OUT}}, 7 ~{{OUT}} hidden, 8 VDD hidden, 9 GND hidden

## MCP14A1202xMNY
designator *  value MCP14A1202xMNY  Reference: U
ki_keywords: Driver, Dual MOSFET; ki_description: Dual 12A-Peak MOSFET Driver, non-inverting outputs, DFN-8; ki_fp_filters: TDFN*1EP*3x2mm*P0.5mm*; Footprint: Package_DFN_QFN:TDFN-8-1EP_3x2mm_P0.5mm_EP1.3x1.4mm; Datasheet: http://ww1.microchip.com/downloads/en/DeviceDoc/MCP14A1201-Family-Data-Sheet-DS20006228A.pdf
pins: 1 VDD, 2 IN, 3 EN, 4 GND, 5 GND hidden, 6 OUT, 7 OUT hidden, 8 VDD hidden, 9 GND hidden

## MCP1415
designator *  value MCP1415  Reference: U
ki_keywords: mosfet gate driver; ki_description: 1.5A High speed power MOSFET driver with inverting output, SOT-23-5; ki_fp_filters: SOT?23*; Footprint: Package_TO_SOT_SMD:SOT-23-5; Datasheet: http://ww1.microchip.com/downloads/en/DeviceDoc/20002092F.pdf
pins: 1 NC hidden, 2 Vdd, 3 IN, 4 GND, 5 ~{{OUT}}

## MCP1415R
designator *  value MCP1415R  Reference: U
ki_keywords: mosfet gate driver; ki_description: 1.5A High speed power MOSFET driver with inverting output, SOT-23-5; ki_fp_filters: SOT?23*; Footprint: Package_TO_SOT_SMD:SOT-23-5; Datasheet: http://ww1.microchip.com/downloads/en/DeviceDoc/20002092F.pdf
pins: 1 NC hidden, 2 GND, 3 IN, 4 ~{{OUT}}, 5 Vdd

## MCP1416
designator *  value MCP1416  Reference: U
ki_keywords: mosfet gate driver; ki_description: 1.5A High speed power MOSFET driver with non-inverting output, SOT-23-5; ki_fp_filters: SOT?23*; Footprint: Package_TO_SOT_SMD:SOT-23-5; Datasheet: http://ww1.microchip.com/downloads/en/DeviceDoc/20002092F.pdf
pins: 1 NC hidden, 2 Vdd, 3 IN, 4 GND, 5 OUT

## MCP1416R
designator *  value MCP1416R  Reference: U
ki_keywords: mosfet gate driver; ki_description: 1.5A High speed power MOSFET driver with non-inverting output, SOT-23-5; ki_fp_filters: SOT?23*; Footprint: Package_TO_SOT_SMD:SOT-23-5; Datasheet: http://ww1.microchip.com/downloads/en/DeviceDoc/20002092F.pdf
pins: 1 NC hidden, 2 GND, 3 IN, 4 OUT, 5 Vdd

## MIC4426
designator *  value MIC4426  Reference: U
ki_keywords: Driver, Dual MOSFET; ki_description: Dual 1.5A-Peak Low-Side MOSFET Driver, DIP-8/SOIC-8/MSOP-8; ki_fp_filters: DIP*W7.62mm* SOIC*3.9x4.9mm*P1.27mm* MSOP*P0.65mm*; Datasheet: http://www.intersil.com/content/dam/Intersil/documents/el72/el7202-12-22.pdf
pins: 1 NC hidden, 2 IN_A, 3 GND, 4 IN_B, 5 ~{{OUT_B}}, 6 V+, 7 ~{{OUT_A}}, 8 NC hidden

## MIC4427
designator *  value MIC4427  Reference: U
ki_keywords: Driver, Dual MOSFET; ki_description: Dual 1.5A-Peak Low-Side MOSFET Driver, DIP-8/SOIC-8/MSOP-8; ki_fp_filters: DIP*W7.62mm* SOIC*3.9x4.9mm*P1.27mm* MSOP*P0.65mm*; Datasheet: http://ww1.microchip.com/downloads/en/DeviceDoc/mic4426.pdf
pins: 1 NC hidden, 2 IN_A, 3 GND, 4 IN_B, 5 OUT_B, 6 V+, 7 OUT_A, 8 NC hidden

## MIC4428
designator *  value MIC4428  Reference: U
ki_keywords: Driver, Dual MOSFET; ki_description: Dual 1.5A-Peak Low-Side MOSFET Driver, DIP-8/SOIC-8/MSOP-8; ki_fp_filters: DIP*W7.62mm* SOIC*3.9x4.9mm*P1.27mm* MSOP*P0.65mm*; Datasheet: http://ww1.microchip.com/downloads/en/DeviceDoc/mic4426.pdf
pins: 1 NC hidden, 2 IN_A, 3 GND, 4 IN_B, 5 OUT_B, 6 V+, 7 ~{{OUT_A}}, 8 NC hidden

## MIC4604YM
designator *  value MIC4604YM  Reference: U
ki_keywords: Half-Bridge Gate Driver; ki_description: 85V Half-Bridge MOSFET Driver with up to 16V Programmable Gate Drive, SOIC-8; ki_fp_filters: SOIC*3.9x4.9mm*P1.27mm*; Footprint: Package_SO:SOIC-8_3.9x4.9mm_P1.27mm; Datasheet: http://ww1.microchip.com/downloads/en/DeviceDoc/20005852A.pdf
pins: 1 VDD, 2 HB, 3 HO, 4 HS, 5 HI, 6 LI, 7 VSS, 8 LO

## NCD5702
designator *  value NCD5702  Reference: U
ki_keywords: igbt gate driver; ki_description: High Current IGBT Gate, +4/-6A, SOIC-16; ki_fp_filters: SOIC*3.9x9.9*P1.27mm*; Footprint: Package_SO:SOIC-16_3.9x9.9mm_P1.27mm; Datasheet: https://www.onsemi.com/pub/Collateral/NCD5702-D.PDF
pins: 1 EN, 2 VIN, 3 VREF, 4 ~{{FLT}}, 5 GNDA, 6 NC hidden, 7 RSVD, 8 NC hidden, 9 DESAT, 10 VCC, 11 VOH, 12 VOL, 13 GND, 14 VEE, 15 VEEA, 16 CLAMP

## NCV8402xST
designator *  value NCV8402xST  Reference: Q
ki_keywords: MOSFET ESD Overcurrent; ki_description: Self-Protected Low Side Driver with Temperature and Current Limit, SOT−223; ki_fp_filters: SOT?223*; Footprint: Package_TO_SOT_SMD:SOT-223; Datasheet: https://www.onsemi.com/pub/Collateral/NCV8402-D.PDF
pins: 1 G, 2 D hidden, 3 S, 4 D
text: Temp & Current; Limit

## PE29101
designator *  value PE29101  Reference: U
ki_keywords: GaN Gate Driver; ki_description: UltraCMOS High-Speed FET Driver, 40 MHz, Output Current 2.0A/4.0A, 80V, Half Bridge, Low Side Output, CSP-16; ki_fp_filters: pSemi*CSP*1.64x2.04mm*P0.4mm*; Footprint: Package_CSP:pSemi_CSP-16_1.64x2.04mm_P0.4mm; Datasheet: http://www.psemi.com/pdf/datasheets/pe29101ds.pdf
pins: 1 HSGpd, 2 HSS, 3 HSB, 4 VDDSYNC, 5 RDLH, 6 HSGpu, 7 ~{{EN}}, 8 IN, 9 LSGpu, 10 LSO, 11 GND, 12 LSGpd, 13 LSS, 14 LSB, 15 VDD, 16 RDHL

## PE29102
designator *  value PE29102  Reference: U
ki_keywords: GaN Gate Driver; ki_description: UltraCMOS High-Speed FET Driver, 40 MHz, Output Current 2.0A/4.0A, 80V, Half Bridge, Phase Control, CSP-16; ki_fp_filters: pSemi*CSP*1.64x2.04mm*P0.4mm*; Footprint: Package_CSP:pSemi_CSP-16_1.64x2.04mm_P0.4mm; Datasheet: http://www.psemi.com/pdf/datasheets/pe29102ds.pdf
pins: 1 HSGpd, 2 HSS, 3 HSB, 4 NC hidden, 5 RDLH, 6 HSGpu, 7 ~{{EN}}, 8 IN, 9 LSGpu, 10 PHCTL, 11 GND, 12 LSGpd, 13 LSS, 14 LSB, 15 VDD, 16 RDHL

## PM8834
designator *  value PM8834  Reference: U
ki_keywords: mosfet driver; ki_description: 4A dual low-side MOSFET driver, SOIC-8; ki_fp_filters: SOIC*3.9x4.9mm*P1.27mm*; Footprint: Package_SO:SOIC-8_3.9x4.9mm_P1.27mm; Datasheet: http://www.st.com/resource/en/datasheet/pm8834.pdf
pins: 1 EN1, 2 PWM1, 3 GND, 4 PWM2, 5 OUT2, 6 VCC, 7 OUT1, 8 EN2

## PM8834M
designator *  value PM8834M  Reference: U
ki_keywords: mosfet driver; ki_description: 4A dual low-side MOSFET driver, MSOP-8; ki_fp_filters: MSOP*1EP*3x3mm*P0.65mm*; Footprint: Package_SO:MSOP-8-1EP_3x3mm_P0.65mm_EP1.95x2.15mm; Datasheet: http://www.st.com/resource/en/datasheet/pm8834.pdf
pins: 1 EN1, 2 PWM1, 3 GND, 4 PWM2, 5 OUT2, 6 VCC, 7 OUT1, 8 EN2, 9 GND

## SM72295MA
designator *  value SM72295MA  Reference: U
ki_keywords: Full Bridge Gate Driver; ki_description: Full Bridge Gate Driver with integrated Current Sense Amplifier, 3A, 115V, SOIC-28; ki_fp_filters: SOIC*7.5x17.9mm*P1.27mm*; Footprint: Package_SO:SOIC-28W_7.5x17.9mm_P1.27mm; Datasheet: http://www.ti.com/lit/gpn/sm72295
pins: 1 SIA, 2 SOA, 3 IIN, 4 BIN, 5 AGND, 6 LIA, 7 HIA, 8 HIB, 9 LIB, 10 PGOOD, 11 BOUT, 12 IOUT, 13 SOB, 14 SIB, 15 OVP, 16 OVS, 17 VDD, 18 HSA, 19 HOA, 20 HBA, 21 VCCA, 22 LOA, 23 PGND, 24 LOB, 25 VCCB, 26 HBB, 27 HOB, 28 HSB

## STGAP1AS
designator *  value STGAP1AS  Reference: U
ki_keywords: isolated fet driver; ki_description: Galvanically isolated 5 A advanced single gate driver, Dual Output, Miller Clamp, Sense, Desaturation, UVLO, OVLO, SPI, AEC-Q100, SOIC-24; ki_fp_filters: SOIC*7.5x15.4mm*P1.27mm*; Footprint: Package_SO:SOIC-24W_7.5x15.4mm_P1.27mm; Datasheet: https://www.st.com/resource/en/datasheet/stgap1as.pdf
pins: 1 GND, 2 SDO, 3 SDI, 4 ~{{CS}}, 5 CK, 6 VREG, 7 VDD, 8 IN-/DIAG2, 9 IN+, 10 DIAG1, 11 ~{{SD}}, 12 GND hidden, 13 GNDISO, 14 VL, 15 VREGISO, 16 SENSE, 17 VH, 18 DESAT, 19 VCECLAMP, 20 GON, 21 GOFF, 22 CLAMP, 23 VL hidden, 24 ASC

## STGAP2SCM
designator *  value STGAP2SCM  Reference: U
ki_keywords: isolated fet driver; ki_description: Galvanically isolated 4 A single gate driver, Single Output, Miller Clamp, SOIC-8; ki_fp_filters: SOIC*3.9x4.9mm*P1.27mm*; Footprint: Package_SO:SOIC-8_3.9x4.9mm_P1.27mm; Datasheet: https://www.st.com/resource/en/datasheet/stgap2s.pdf
pins: 1 VDD, 2 IN+, 3 IN-, 4 GND, 5 VH, 6 GOUT, 7 CLAMP, 8 GNDISO

## STGAP2SM
designator *  value STGAP2SM  Reference: U
ki_keywords: isolated fet driver; ki_description: Galvanically isolated 4 A single gate driver, Dual Output, SOIC-8; ki_fp_filters: SOIC*3.9x4.9mm*P1.27mm*; Footprint: Package_SO:SOIC-8_3.9x4.9mm_P1.27mm; Datasheet: https://www.st.com/resource/en/datasheet/stgap2s.pdf
pins: 1 VDD, 2 IN+, 3 IN-, 4 GND, 5 VH, 6 GON, 7 GOFF, 8 GNDISO

## TC4421
designator *  value TC4421  Reference: U
ki_keywords: MOSFET IGBT driver; ki_description: 9A High-Speed inverting MOSFET Driver; ki_fp_filters: DIP*W7.62mm*; Footprint: Package_DIP:DIP-8_W7.62mm; Datasheet: http://ww1.microchip.com/downloads/en/DeviceDoc/20001420F.pdf
pins: 1 VDD, 2 INPUT, 3 NC hidden, 4 GND, 5 GND hidden, 6 ~{{OUTPUT}}, 7 ~{{OUTPUT}} hidden, 8 VDD hidden

## TC4422
designator *  value TC4422  Reference: U
ki_keywords: MOSFET IGBT driver; ki_description: 9A High-Speed non-inverting MOSFET Driver; ki_fp_filters: DIP*W7.62mm*; Footprint: Package_DIP:DIP-8_W7.62mm; Datasheet: http://ww1.microchip.com/downloads/en/DeviceDoc/20001420F.pdf
pins: 1 VDD, 2 INPUT, 3 NC hidden, 4 GND, 5 GND hidden, 6 OUTPUT, 7 OUTPUT hidden, 8 VDD hidden

## TLP250
designator *  value TLP250  Reference: U
ki_keywords: MOSFET Driver IGBT Driver Optocoupler; ki_description: Gate Drive Optocoupler, Output Current 1.5/1.5A, DIP-8; ki_fp_filters: DIP*W7.62mm*; Footprint: Package_DIP:DIP-8_W7.62mm; Datasheet: http://toshiba.semicon-storage.com/info/docget.jsp?did=16821&prodName=TLP250
pins: 1 NC hidden, 2 A, 3 C, 4 NC hidden, 5 VEE, 6 VO, 7 VO, 8 VCC

## UCC21520ADW
designator *  value UCC21520ADW  Reference: U
ki_keywords: Dual Isolated Gate Driver; ki_description: Isolated Dual-Channel Gate Driver, Output Current 4.0/6.0A, 5.7kV Isolation, 5V UVLO, SOIC-16W; ki_fp_filters: SOIC*7.5x10.3mm*P1.27mm*; Footprint: Package_SO:SOIC-16W_7.5x10.3mm_P1.27mm; Datasheet: http://www.ti.com/lit/ds/symlink/ucc21520.pdf
pins: 1 INA, 2 INB, 3 VCCI, 4 GND, 5 DIS, 6 DT, 7 NC hidden, 8 VCCI hidden, 9 VSSB, 10 OUTB, 11 VDDB, 12 NC hidden, 13 NC hidden, 14 VSSA, 15 OUTA, 16 VDDA
text: Logic Input

## UCC21520DW
designator *  value UCC21520DW  Reference: U
ki_keywords: Dual Isolated Gate Driver; ki_description: Isolated Dual-Channel Gate Driver, Output Current 4.0/6.0A, 5.7kV Isolation, 8V UVLO, SOIC-16W; ki_fp_filters: SOIC*7.5x10.3mm*P1.27mm*; Footprint: Package_SO:SOIC-16W_7.5x10.3mm_P1.27mm; Datasheet: http://www.ti.com/lit/ds/symlink/ucc21520.pdf
pins: 1 INA, 2 INB, 3 VCCI, 4 GND, 5 DIS, 6 DT, 7 NC hidden, 8 VCCI hidden, 9 VSSB, 10 OUTB, 11 VDDB, 12 NC hidden, 13 NC hidden, 14 VSSA, 15 OUTA, 16 VDDA
text: Logic Input

## UCC27511ADBV
designator *  value UCC27511ADBV  Reference: U
ki_keywords: single channel low side gate drive dual input split output; ki_description: Single-Channel High-Speed Low-Side Gate Driver With 4-A Peak Source and 8-A Peak Sink, SOT-23-6; ki_fp_filters: SOT?23*; Footprint: Package_TO_SOT_SMD:SOT-23-6; Datasheet: https://www.ti.com/lit/ds/symlink/ucc27511a.pdf
pins: 1 V_{DD}, 2 OUTH, 3 OUTL, 4 GND, 5 IN-, 6 IN+

## UCC27714D
designator *  value UCC27714D  Reference: U
ki_keywords: gate driver bootstrap; ki_description: High-Speed, 600-V High-Side Low-Side Gate Driver, SOIC-14; ki_fp_filters: SOIC*3.9x8.7mm*P1.27mm*; Footprint: Package_SO:SOIC-14_3.9x8.7mm_P1.27mm; Datasheet: http://www.ti.com/lit/ds/symlink/ucc27714.pdf
pins: 1 HI, 2 LI, 3 VSS, 4 EN/NC, 5 COM, 6 LO, 7 VDD, 8 NC hidden, 9 NC hidden, 10 NC hidden, 11 HS, 12 HO, 13 HB, 14 NC hidden

## ZXGD3001E6
designator *  value ZXGD3001E6  Reference: U
ki_keywords: gate driver; ki_description: 9A (peak) Gate driver, 12V, 3ns delay, SOT-23-6; ki_fp_filters: SOT?23*; Footprint: Package_TO_SOT_SMD:SOT-23-6; Datasheet: http://www.diodes.com/_files/datasheets/ZXGD3001E6.pdf
pins: 1 VCC, 2 IN1, 3 GND, 4 SINK, 5 IN2, 6 SOURCE

## ZXGD3002E6
designator *  value ZXGD3002E6  Reference: U
ki_keywords: gate driver; ki_description: 9A (peak) Gate driver, 20V, 2ns delay, SOT-23-6; ki_fp_filters: SOT?23*; Footprint: Package_TO_SOT_SMD:SOT-23-6; Datasheet: http://www.diodes.com/_files/datasheets/ZXGD3002E6.pdf
pins: 1 VCC, 2 IN1, 3 GND, 4 SINK, 5 IN2, 6 SOURCE

## ZXGD3003E6
designator *  value ZXGD3003E6  Reference: U
ki_keywords: gate driver; ki_description: 5A (peak) Gate driver, 40V, 2ns delay, SOT-23-6; ki_fp_filters: SOT?23*; Footprint: Package_TO_SOT_SMD:SOT-23-6; Datasheet: http://www.diodes.com/_files/datasheets/ZXGD3003E6.pdf
pins: 1 VCC, 2 IN1, 3 GND, 4 SINK, 5 IN2, 6 SOURCE

## ZXGD3004E6
designator *  value ZXGD3004E6  Reference: U
ki_keywords: gate driver; ki_description: 8A (peak) Gate driver, 40V, 1ns delay, SOT-23-6; ki_fp_filters: SOT?23*; Footprint: Package_TO_SOT_SMD:SOT-23-6; Datasheet: http://www.diodes.com/_files/datasheets/ZXGD3004E6.pdf
pins: 1 VCC, 2 IN1, 3 GND, 4 SINK, 5 IN2, 6 SOURCE

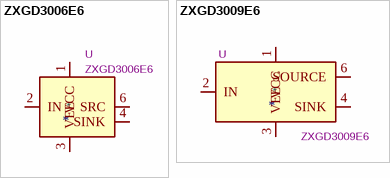
[diagram p5: symbols ZXGD3006E6 to ZXGD3009E6]

## ZXGD3006E6
designator *  value ZXGD3006E6  Reference: U
ki_keywords: mosfet igbt driver buffer; ki_description: 40V 10A gate driver, SOT-23-6; ki_fp_filters: SOT?23*; Footprint: Package_TO_SOT_SMD:SOT-23-6; Datasheet: https://www.diodes.com/assets/Datasheets/ZXGD3006E6.pdf
pins: 1 VCC, 2 IN, 3 VEE, 4 SINK, 5 NC hidden, 6 SRC

## ZXGD3009E6
designator *  value ZXGD3009E6  Reference: U
ki_keywords: gate driver; ki_description: 2A (peak) Gate driver, 40V, SOT-23-6; ki_fp_filters: SOT?23*; Footprint: Package_TO_SOT_SMD:SOT-23-6; Datasheet: https://www.diodes.com/assets/Datasheets/ZXGD3009E6.pdf
pins: 1 VCC, 2 IN, 3 VEE, 4 SINK, 5 NC hidden, 6 SOURCE